# Altium schematic symbol library AP3012.SchLib: 1 symbol
Pins are listed as number, name and electrical type; pins without a type are passive.

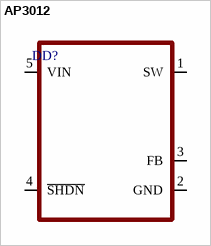
[diagram p0: symbol AP3012]

## AP3012
designator DD?
pins: 1 SW, 2 GND, 3 FB, 4 ~{SHDN}, 5 VIN